# EAGLE library part INA163 (library BurrBrownAudioParts)
INA163: Low-Noise, Low-Distortion Instrumentation Amplifier
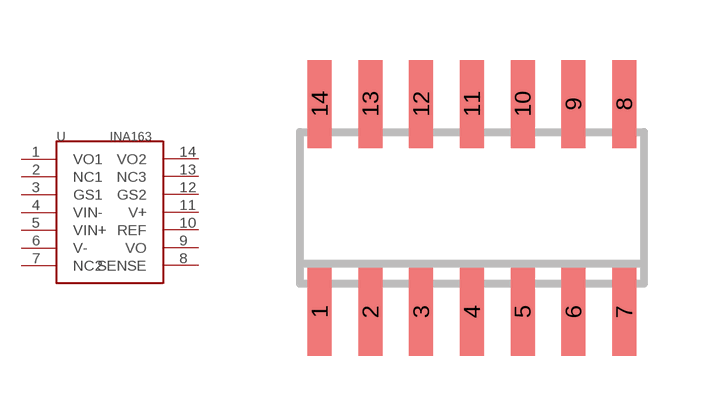
[diagram p3: symbol with the pads of SO14; footprint SO14]

Designator prefix -

## INA163  [SO14]
1  VO1
2  NC1
3  GS1
4  VIN-
5  VIN+
6  V-
7  NC2
8  SENSE
9  VO
10  REF
11  V+
12  GS2
13  NC3
14  VO2

## Footprint SO14 (pad centres in mm)
SMALL OUTLINE INTEGRATED CIRCUIT body 3.9 mm/JEDEC MS-012AC
smd 0.6 x 2.2: 1 -3.81,-2.6; 2 -2.54,-2.6; 3 -1.27,-2.6; 4 0,-2.6; 5 1.27,-2.6; 6 2.54,-2.6; 7 3.81,-2.6; 8 3.81,2.6; 9 2.54,2.6; 10 1.27,2.6; 11 0,2.6; 12 -1.27,2.6; 13 -2.54,2.6; 14 -3.81,2.6